# EAGLE library part SOIC-28 (library MAÑE)
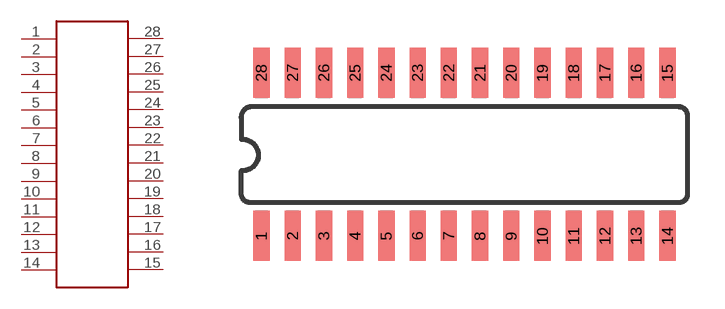
[diagram p12: symbol with the pads of SOIC-28; footprint SOIC-28]

Designator prefix -

## SOIC-28SOIC-28  [SOIC-28]
1  P$1
2  P$2
3  P$3
4  P$4
5  P$5
6  P$6
7  P$7
8  P$8
9  P$9
10  P$10
11  P$11
12  P$12
13  P$13
14  P$14
15  P$15
16  P$16
17  P$17
18  P$18
19  P$19
20  P$20
21  P$21
22  P$22
23  P$23
24  P$24
25  P$25
26  P$26
27  P$27
28  P$28

## Footprint SOIC-28 (pad centres in mm)
smd 0.66 x 2.032: 1 -7.685,-3.285; 2 -6.415,-3.285; 3 -5.145,-3.285; 4 -3.875,-3.285; 5 -2.605,-3.285; 6 -1.335,-3.285; 7 -0.065,-3.285; 8 1.205,-3.285; 9 2.475,-3.285; 10 3.745,-3.285; 11 5.015,-3.285; 12 6.285,-3.285; 13 7.555,-3.285; 14 8.825,-3.285; 15 8.825,3.345; 16 7.555,3.345; 17 6.285,3.345; 18 5.015,3.345; 19 3.745,3.345; 20 2.475,3.345; 21 1.205,3.345; 22 -0.065,3.345; 23 -1.335,3.345; 24 -2.605,3.345; 25 -3.875,3.345; 26 -5.145,3.345; 27 -6.415,3.345; 28 -7.685,3.345